# Altium schematic symbol library TPSD107M016S0100.SchLib: 1 symbol
Pins are listed as number, name and electrical type; pins without a type are passive.

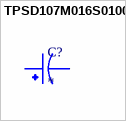
[diagram p0: symbol TPSD107M016S0100]

## TPSD107M016S0100
designator C?
MF: {'manufacturer': u'AVX'}; MP: TPSD107M016S0100; Package: None; Price: None; Value: *; Availability: Unavailable
footprint CAPPM7343X310N
pins: 1, 2